# Altium footprint library max.PcbLib: 1 footprints
Each footprint in its own frame and in the unit in brackets; x right, y up, seen from the top. Pads: shape width x height; smd on the part's side, far side on the other; paste and mask are expansions set on the pad; w line width, h text height; cw(c..) or ccw(c..) is an arc to the next point about the centre after c.
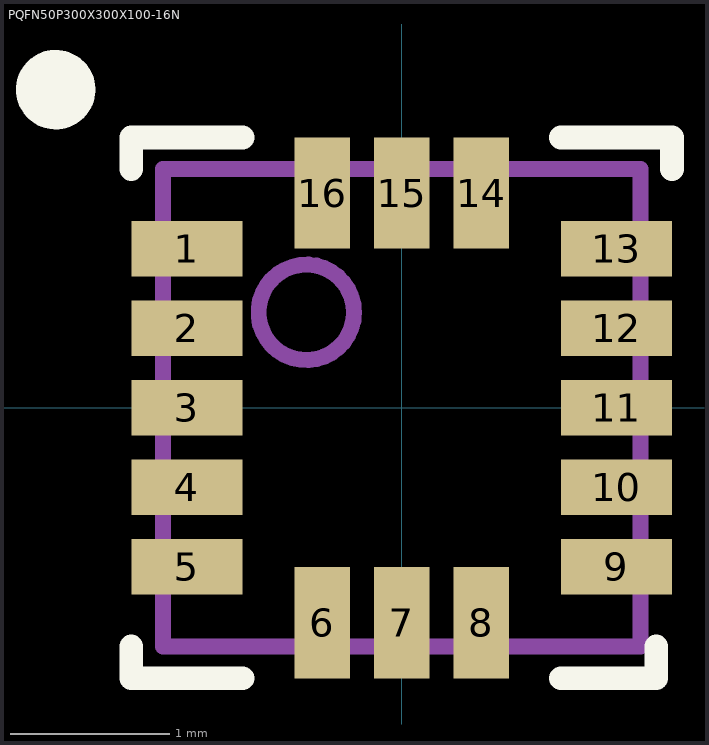
[diagram p0: the footprint, top view; thin cyan lines are the x and y axes]

## PQFN50P300X300X100-16N [mm] "PQFN, 16-Leads, Body 3.00x3.00mm, Pitch 0.50mm, IPC Medium Density"
height 1
pads (16):
  rect 0.7x0.35 smd: 1(-1.35,1) 2(-1.35,0.5) 3(-1.35,0) 4(-1.35,-0.5) 5(-1.35,-1) 9(1.35,-1) 10(1.35,-0.5) 11(1.35,0) 12(1.35,0.5) 13(1.35,1)
  rect 0.35x0.7 smd: 6(-0.5,-1.35) 7(0,-1.35) 8(0.5,-1.35) 14(0.5,1.35) 15(0,1.35) 16(-0.5,1.35)
Top Overlay:
  circle w0.25: c-2.175,2 r0.125
  lines w0.15: -1.7,-1.5 -1.7,-1.7 -1,-1.7 ; -1.7,1.5 -1.7,1.7 -1,1.7 ; 1,-1.7 1.6,-1.7 1.6,-1.5 ; 1,1.7 1.7,1.7 1.7,1.5
Mechanical 13:
  circle w0.1: c-0.6,0.6 r0.3
  lines w0.1: -1.5,-1.5 -1.5,1.5 1.5,1.5 1.5,-1.5 -1.5,-1.5
3D body: height 0.91, standoff -0.01, extent -1.5,-1.5 1.5,1.5